# Altium footprint library ArduinoLibrary.PcbLib: 2 footprints
Each footprint in its own frame and in the unit in brackets; x right, y up, seen from the top. Pads: shape width x height; smd on the part's side, far side on the other; paste and mask are expansions set on the pad; w line width, h text height; cw(c..) or ccw(c..) is an arc to the next point about the centre after c.
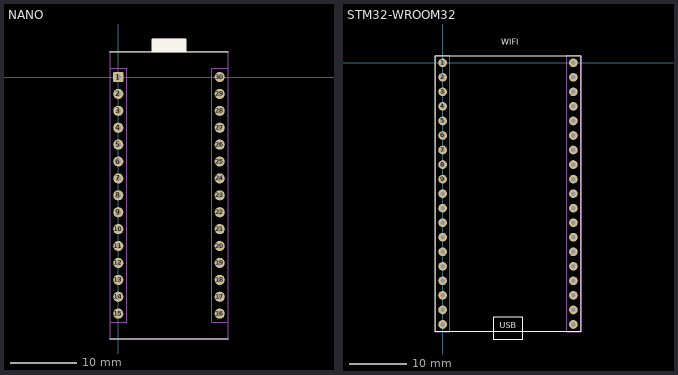
[diagram p0: the footprints below, top view; thin cyan lines are the x and y axes]

## NANO [mil]
pads (30):
  rrect20% 60x60 hole 30: 1(0,0)
  round 60 hole 30: 2(0,-100) 3(0,-200) 4(0,-300) 5(0,-400) 6(0,-500) 7(0,-600) 8(0,-700) 9(0,-800) 10(0,-900) 11(0,-1000) 12(0,-1100) 13(0,-1200) 14(0,-1300) 15(0,-1400) 16(600,-1400) 17(600,-1300) 18(600,-1200) 19(600,-1100) 20(600,-1000) 21(600,-900) 22(600,-800) 23(600,-700) 24(600,-600) 25(600,-500) 26(600,-400) 27(600,-300) 28(600,-200) 29(600,-100) 30(600,0)
F.SilkS:
  region: 400,150 200,150 200,225 400,225
  lines w4.72: -50,-1550 650,-1550 ; -50,150 650,150
  lines w7.87: 200,150 200,225 400,225 400,150 200,150
F.CrtYd:
  lines w1.97: -50,-1450 -50,50 50,50 50,-1450 -50,-1450 ; 550,-1450 550,50 650,50 650,-1450 550,-1450
F.Fab:
  region: 400,150 200,150 200,225 400,225
  lines w0: 200,150 200,225 400,225 400,150 200,150
  lines w3.94: -50,-1550 -50,150 650,150 650,-1550 -50,-1550
  text "'.Designator'" at 140.68,-58.08 h39.37

## STM32-WROOM32 [mil]
pads (38):
  round 60 hole 31.5: 1(0,0) 2(0,-100) 3(0,-200) 4(0,-300) 5(0,-400) 6(0,-500) 7(0,-600) 8(0,-700) 9(0,-800) 10(0,-900) 11(0,-1000) 12(0,-1100) 13(0,-1200) 14(0,-1300) 15(0,-1400) 16(0,-1500) 17(0,-1600) 18(0,-1700) 19(0,-1800) 20(900,-1800) 21(900,-1700) 22(900,-1600) 23(900,-1500) 24(900,-1400) 25(900,-1300) 26(900,-1200) 27(900,-1100) 28(900,-1000) 29(900,-900) 30(900,-800) 31(900,-700) 32(900,-600) 33(900,-500) 34(900,-400) 35(900,-300) 36(900,-200) 37(900,-100) 38(900,0)
F.SilkS:
  lines w4.72: -50,-1850 -50,50 950,50 950,-1850 -50,-1850 ; 350,-1900 350,-1750 550,-1750 550,-1900 350,-1900
  text "WIFI" at 402.86,124.41 h39.37
  text "USB" at 394.89,-1825.59 h39.37
F.CrtYd:
  lines w1.97: -50,-1850 -50,50 50,50 50,-1850 -50,-1850 ; 850,-1850 850,50 950,50 950,-1850 850,-1850
F.Fab:
  text "'.Designator'" at 290.68,-233.08 h39.37